# EAGLE library part TMHU28 (library 09_1_switch)
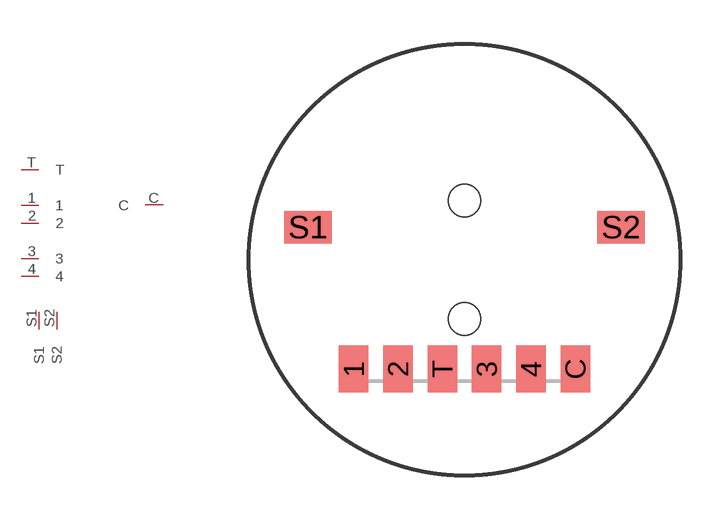
[diagram p68: symbol with the pads of TMHU28; footprint TMHU28]

Designator prefix -

## TMHU28  [TMHU28]
1  1
2  2
3  3
4  4
C  C
S1  S1
S2  S2
T  T

## Footprint TMHU28 (pad centres in mm)
smd 1 x 1.6: 1 -3.75,-3.7; 2 -2.25,-3.7; 3 0.75,-3.7; 4 2.25,-3.7; C 3.75,-3.7; T -0.75,-3.7
smd 1.6 x 1.1: S1 -5.3,1.1; S2 5.3,1.1
hole 1.1 at 0,-2
hole 1.1 at 0,2